# Altium integrated library Oscillators - Crystals.IntLib: 746 symbols (part 4 of 17)
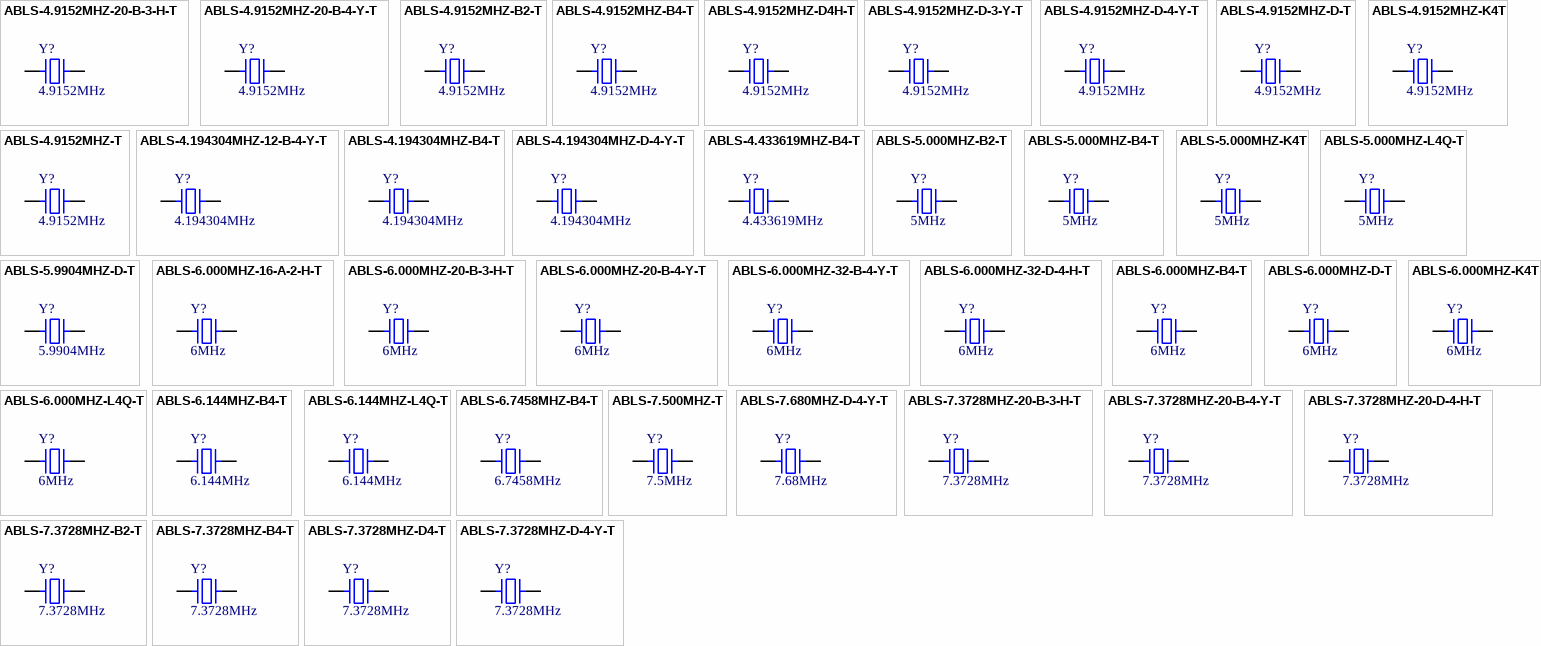
[diagram p21: symbols ABLS-4.9152MHZ-20-B-3-H-T to ABLS-7.3728MHZ-D-4-Y-T]

## ABLS-5.9904MHZ-D-T
designator Y?, comment 5.9904MHz
CRYSTAL 5.9904MHZ 18PF SMD; Part Number: ABLS-5.9904MHZ-D-T; Manufacturer: Abracon LLC; ESR (Equivalent Series Resistance): 120 Ohms; Frequency Stability: ±50ppm; Operating Mode: Fundamental; ComponentLink1Description: Datasheet; ComponentLink1URL: https://abracon.com/Resonators/abls.pdf; ComponentLink2Description: DigiKey Link; ComponentLink2URL: http://digikey.com/product-detail/en/abracon-llc/ABLS-5.9904MHZ-D-T/535-14361-1-ND/8582122; Frequency: 5.9904MHz; Frequency Tolerance: ±50ppm; Height - Seated (Max): 0.165" (4.20mm); LastUpdated: 9/2/2020 1:21:46 AM; Lifecycle Status: Active; Load Capacitance: 18pF; Minimum Order: 1; Mounting Type: Surface Mount; Operating Temperature: -40°C ~ 85°C; Package / Case: HC-49/US; Packaging: TapeAndReel; PartId: 22; Part Status: Active; Price: 0.24; Series: ABLS; Size / Dimension: 0.449" L x 0.185" W (11.40mm x 4.70mm); Supplier 1: DigiKey; Supplier Part Number 1: 535-14361-1-ND; Type: MHz Crystal; Value: 5.9904MHz
footprint ABRACON ABLS
pins: 1, 2

## ABLS-6.000MHZ-16-A-2-H-T
designator Y?, comment 6MHz
CRYSTAL 6.0000MHZ 16PF SMD; Part Number: ABLS-6.000MHZ-16-A-2-H-T; Manufacturer: Abracon LLC; ESR (Equivalent Series Resistance): 100 Ohms; Frequency Stability: ±35ppm; Frequency Tolerance: ±20ppm; Operating Mode: Fundamental; ComponentLink1Description: Datasheet; ComponentLink1URL: https://abracon.com/Resonators/abls.pdf; ComponentLink2Description: DigiKey Link; ComponentLink2URL: http://digikey.com/product-detail/en/abracon-llc/ABLS-6.000MHZ-16-A-2-H-T/535-14931-1-ND/9998008; Frequency: 6MHz; Height - Seated (Max): 0.165" (4.20mm); LastUpdated: 9/2/2020 1:21:46 AM; Lifecycle Status: Active; Load Capacitance: 16pF; Minimum Order: 1; Mounting Type: Surface Mount; Operating Temperature: -10°C ~ 60°C; Package / Case: HC-49/US; Packaging: TapeAndReel; PartId: 80; Part Status: Active; Price: 0.28; Series: ABLS; Size / Dimension: 0.449" L x 0.185" W (11.40mm x 4.70mm); Supplier 1: DigiKey; Supplier Part Number 1: 535-14931-1-ND; Type: MHz Crystal; Value: 6MHz
footprint ABRACON ABLS
pins: 1, 2

## ABLS-6.000MHZ-20-B-3-H-T
designator Y?, comment 6MHz
CRYSTAL 6.0000MHZ 20PF SMD; Part Number: ABLS-6.000MHZ-20-B-3-H-T; Manufacturer: Abracon LLC; ESR (Equivalent Series Resistance): 100 Ohms; Frequency Stability: ±35ppm; Frequency Tolerance: ±25ppm; Operating Mode: Fundamental; ComponentLink1Description: Datasheet; ComponentLink1URL: https://abracon.com/Resonators/abls.pdf; ComponentLink2Description: DigiKey Link; ComponentLink2URL: http://digikey.com/product-detail/en/abracon-llc/ABLS-6.000MHZ-20-B-3-H-T/535-14932-1-ND/9998009; Frequency: 6MHz; Height - Seated (Max): 0.165" (4.20mm); LastUpdated: 9/2/2020 1:21:46 AM; Lifecycle Status: Active; Load Capacitance: 20pF; Minimum Order: 1; Mounting Type: Surface Mount; Operating Temperature: -20°C ~ 70°C; Package / Case: HC-49/US; Packaging: TapeAndReel; PartId: 34; Part Status: Active; Price: 0.12; Series: ABLS; Size / Dimension: 0.449" L x 0.185" W (11.40mm x 4.70mm); Supplier 1: DigiKey; Supplier Part Number 1: 535-14932-1-ND; Type: MHz Crystal; Value: 6MHz
footprint ABRACON ABLS
pins: 1, 2

## ABLS-6.000MHZ-20-B-4-Y-T
designator Y?, comment 6MHz
CRYSTAL 6.0000MHZ 20PF SMD; Part Number: ABLS-6.000MHZ-20-B-4-Y-T; Manufacturer: Abracon LLC; ESR (Equivalent Series Resistance): 100 Ohms; Frequency Stability: ±30ppm; Operating Mode: Fundamental; ComponentLink1Description: Datasheet; ComponentLink1URL: https://abracon.com/Resonators/abls.pdf; ComponentLink2Description: DigiKey Link; ComponentLink2URL: http://digikey.com/product-detail/en/abracon-llc/ABLS-6.000MHZ-20-B-4-Y-T/535-14933-1-ND/9998010; Frequency: 6MHz; Frequency Tolerance: ±30ppm; Height - Seated (Max): 0.165" (4.20mm); LastUpdated: 9/2/2020 1:21:46 AM; Lifecycle Status: Active; Load Capacitance: 20pF; Minimum Order: 1; Mounting Type: Surface Mount; Operating Temperature: -20°C ~ 70°C; Package / Case: HC-49/US; Packaging: TapeAndReel; PartId: 45; Part Status: Active; Price: 0.18; Series: ABLS; Size / Dimension: 0.449" L x 0.185" W (11.40mm x 4.70mm); Supplier 1: DigiKey; Supplier Part Number 1: 535-14933-1-ND; Type: MHz Crystal; Value: 6MHz
footprint ABRACON ABLS
pins: 1, 2

## ABLS-6.000MHZ-32-B-4-Y-T
designator Y?, comment 6MHz
CRYSTAL 6.0000MHZ 32PF SMD; Part Number: ABLS-6.000MHZ-32-B-4-Y-T; Manufacturer: Abracon LLC; ESR (Equivalent Series Resistance): 100 Ohms; Frequency Stability: ±30ppm; Operating Mode: Fundamental; ComponentLink1Description: Datasheet; ComponentLink1URL: https://abracon.com/Resonators/abls.pdf; ComponentLink2Description: DigiKey Link; ComponentLink2URL: http://digikey.com/product-detail/en/abracon-llc/ABLS-6.000MHZ-32-B-4-Y-T/535-14934-1-ND/9998011; Frequency: 6MHz; Frequency Tolerance: ±30ppm; Height - Seated (Max): 0.165" (4.20mm); LastUpdated: 9/2/2020 1:21:46 AM; Lifecycle Status: Active; Load Capacitance: 32pF; Minimum Order: 1; Mounting Type: Surface Mount; Operating Temperature: -20°C ~ 70°C; Package / Case: HC-49/US; Packaging: TapeAndReel; PartId: 50; Part Status: Active; Price: 0.18; Series: ABLS; Size / Dimension: 0.449" L x 0.185" W (11.40mm x 4.70mm); Supplier 1: DigiKey; Supplier Part Number 1: 535-14934-1-ND; Type: MHz Crystal; Value: 6MHz
footprint ABRACON ABLS
pins: 1, 2

## ABLS-6.000MHZ-32-D-4-H-T
designator Y?, comment 6MHz
CRYSTAL 6.0000MHZ 32PF SMD; Part Number: ABLS-6.000MHZ-32-D-4-H-T; Manufacturer: Abracon LLC; ESR (Equivalent Series Resistance): 100 Ohms; Frequency Stability: ±35ppm; Frequency Tolerance: ±30ppm; Operating Mode: Fundamental; ComponentLink1Description: Datasheet; ComponentLink1URL: https://abracon.com/Resonators/abls.pdf; ComponentLink2Description: DigiKey Link; ComponentLink2URL: http://digikey.com/product-detail/en/abracon-llc/ABLS-6.000MHZ-32-D-4-H-T/535-14935-1-ND/9998012; Frequency: 6MHz; Height - Seated (Max): 0.165" (4.20mm); LastUpdated: 9/2/2020 1:21:45 AM; Lifecycle Status: Active; Load Capacitance: 32pF; Minimum Order: 1; Mounting Type: Surface Mount; Operating Temperature: -40°C ~ 85°C; Package / Case: HC-49/US; Packaging: TapeAndReel; PartId: 193; Part Status: Active; Price: 0.40; Series: ABLS; Size / Dimension: 0.449" L x 0.185" W (11.40mm x 4.70mm); Supplier 1: DigiKey; Supplier Part Number 1: 535-14935-1-ND; Type: MHz Crystal; Value: 6MHz
footprint ABRACON ABLS
pins: 1, 2

## ABLS-6.000MHZ-B4-T
designator Y?, comment 6MHz
CRYSTAL 6.0000MHZ 18PF SMD; Part Number: ABLS-6.000MHZ-B4-T; Manufacturer: Abracon LLC; ESR (Equivalent Series Resistance): 100 Ohms; Frequency Stability: ±50ppm; Frequency Tolerance: ±30ppm; Operating Mode: Fundamental; ComponentLink1Description: Datasheet; ComponentLink1URL: https://abracon.com/Resonators/abls.pdf; ComponentLink2Description: DigiKey Link; ComponentLink2URL: http://digikey.com/product-detail/en/abracon-llc/ABLS-6.000MHZ-B4-T/535-10208-1-ND/2184243; Frequency: 6MHz; Height - Seated (Max): 0.165" (4.20mm); LastUpdated: 9/2/2020 1:21:45 AM; Lifecycle Status: Active; Load Capacitance: 18pF; Minimum Order: 1; Mounting Type: Surface Mount; Operating Temperature: -20°C ~ 70°C; Package / Case: HC-49/US; Packaging: TapeAndReel; PartId: 101; Part Status: Active; Price: 0.18; Series: ABLS; Size / Dimension: 0.449" L x 0.185" W (11.40mm x 4.70mm); Supplier 1: DigiKey; Supplier Part Number 1: 535-10208-1-ND; Type: MHz Crystal; Value: 6MHz
footprint ABRACON ABLS
pins: 1, 2

## ABLS-6.000MHZ-D-T
designator Y?, comment 6MHz
CRYSTAL 6.0000MHZ 18PF SMD; Part Number: ABLS-6.000MHZ-D-T; Manufacturer: Abracon LLC; ESR (Equivalent Series Resistance): 100 Ohms; Frequency Stability: ±50ppm; Operating Mode: Fundamental; ComponentLink1Description: Datasheet; ComponentLink1URL: https://abracon.com/Resonators/abls.pdf; ComponentLink2Description: DigiKey Link; ComponentLink2URL: http://digikey.com/product-detail/en/abracon-llc/ABLS-6.000MHZ-D-T/535-13443-2-ND/5980039; Frequency: 6MHz; Frequency Tolerance: ±50ppm; Height - Seated (Max): 0.165" (4.20mm); LastUpdated: 9/2/2020 1:21:45 AM; Lifecycle Status: Active; Load Capacitance: 18pF; Minimum Order: 0; Mounting Type: Surface Mount; Operating Temperature: -40°C ~ 85°C; Package / Case: HC-49/US; Packaging: TapeAndReel; PartId: 163; Part Status: Active; Price: 0.18; Series: ABLS; Size / Dimension: 0.449" L x 0.185" W (11.40mm x 4.70mm); Supplier 1: DigiKey; Supplier Part Number 1: 535-13443-2-ND; Type: MHz Crystal; Value: 6MHz
footprint ABRACON ABLS
pins: 1, 2

## ABLS-6.000MHZ-K4T
designator Y?, comment 6MHz
CRYSTAL 6.0000MHZ 18PF SMD; Part Number: ABLS-6.000MHZ-K4T; Manufacturer: Abracon LLC; ESR (Equivalent Series Resistance): 100 Ohms; Frequency Stability: ±50ppm; Frequency Tolerance: ±30ppm; Operating Mode: Fundamental; ComponentLink1Description: Datasheet; ComponentLink1URL: https://abracon.com/Resonators/abls.pdf; ComponentLink2Description: DigiKey Link; ComponentLink2URL: http://digikey.com/product-detail/en/abracon-llc/ABLS-6.000MHZ-K4T/535-9934-1-ND/2001557; Frequency: 6MHz; Height - Seated (Max): 0.165" (4.20mm); LastUpdated: 9/2/2020 1:21:44 AM; Lifecycle Status: Active; Load Capacitance: 18pF; Minimum Order: 1; Mounting Type: Surface Mount; Operating Temperature: -40°C ~ 125°C; Package / Case: HC-49/US; Packaging: TapeAndReel; PartId: 211; Part Status: Active; Price: 0.41; Series: ABLS; Size / Dimension: 0.449" L x 0.185" W (11.40mm x 4.70mm); Supplier 1: DigiKey; Supplier Part Number 1: 535-9934-1-ND; Type: MHz Crystal; Value: 6MHz
footprint ABRACON ABLS
pins: 1, 2

## ABLS-6.000MHZ-L4Q-T
designator Y?, comment 6MHz
CRYSTAL 6.0000MHZ 18PF SMD; Part Number: ABLS-6.000MHZ-L4Q-T; Manufacturer: Abracon LLC; ESR (Equivalent Series Resistance): 100 Ohms; Frequency Stability: ±100ppm; Frequency Tolerance: ±30ppm; Operating Mode: Fundamental; ComponentLink1Description: Datasheet; ComponentLink1URL: https://abracon.com/Resonators/abls.pdf; ComponentLink2Description: DigiKey Link; ComponentLink2URL: http://digikey.com/product-detail/en/abracon-llc/ABLS-6.000MHZ-L4Q-T/535-9898-1-ND/2001521; Frequency: 6MHz; Height - Seated (Max): 0.165" (4.20mm); LastUpdated: 9/2/2020 1:21:44 AM; Lifecycle Status: Active; Load Capacitance: 18pF; Minimum Order: 1; Mounting Type: Surface Mount; Operating Temperature: -55°C ~ 125°C; Package / Case: HC-49/US; Packaging: TapeAndReel; PartId: 203; Part Status: Active; Price: 0.42; Series: ABLS; Size / Dimension: 0.449" L x 0.185" W (11.40mm x 4.70mm); Supplier 1: DigiKey; Supplier Part Number 1: 535-9898-1-ND; Type: MHz Crystal; Value: 6MHz
footprint ABRACON ABLS
pins: 1, 2

## ABLS-6.144MHZ-B4-T
designator Y?, comment 6.144MHz
CRYSTAL 6.1440MHZ 18PF SMD; Part Number: ABLS-6.144MHZ-B4-T; Manufacturer: Abracon LLC; ESR (Equivalent Series Resistance): 100 Ohms; Frequency Stability: ±50ppm; Frequency Tolerance: ±30ppm; Operating Mode: Fundamental; ComponentLink1Description: Datasheet; ComponentLink1URL: https://abracon.com/Resonators/abls.pdf; ComponentLink2Description: DigiKey Link; ComponentLink2URL: http://digikey.com/product-detail/en/abracon-llc/ABLS-6.144MHZ-B4-T/535-10209-1-ND/2184244; Frequency: 6.144MHz; Height - Seated (Max): 0.165" (4.20mm); LastUpdated: 9/2/2020 1:21:45 AM; Lifecycle Status: Active; Load Capacitance: 18pF; Minimum Order: 1; Mounting Type: Surface Mount; Operating Temperature: -20°C ~ 70°C; Package / Case: HC-49/US; Packaging: TapeAndReel; PartId: 157; Part Status: Active; Price: 0.18; Series: ABLS; Size / Dimension: 0.449" L x 0.185" W (11.40mm x 4.70mm); Supplier 1: DigiKey; Supplier Part Number 1: 535-10209-1-ND; Type: MHz Crystal; Value: 6.144MHz
footprint ABRACON ABLS
pins: 1, 2

## ABLS-6.144MHZ-L4Q-T
designator Y?, comment 6.144MHz
CRYSTAL 6.1440MHZ 18PF SMD; Part Number: ABLS-6.144MHZ-L4Q-T; Manufacturer: Abracon LLC; ESR (Equivalent Series Resistance): 100 Ohms; Frequency Stability: ±100ppm; Frequency Tolerance: ±30ppm; Operating Mode: Fundamental; ComponentLink1Description: Datasheet; ComponentLink1URL: https://abracon.com/Resonators/abls.pdf; ComponentLink2Description: DigiKey Link; ComponentLink2URL: http://digikey.com/product-detail/en/abracon-llc/ABLS-6.144MHZ-L4Q-T/535-9899-1-ND/2001522; Frequency: 6.144MHz; Height - Seated (Max): 0.165" (4.20mm); LastUpdated: 9/2/2020 1:21:44 AM; Lifecycle Status: Active; Load Capacitance: 18pF; Minimum Order: 1; Mounting Type: Surface Mount; Operating Temperature: -55°C ~ 125°C; Package / Case: HC-49/US; Packaging: TapeAndReel; PartId: 219; Part Status: Active; Price: 0.42; Series: ABLS; Size / Dimension: 0.449" L x 0.185" W (11.40mm x 4.70mm); Supplier 1: DigiKey; Supplier Part Number 1: 535-9899-1-ND; Type: MHz Crystal; Value: 6.144MHz
footprint ABRACON ABLS
pins: 1, 2

## ABLS-6.7458MHZ-B4-T
designator Y?, comment 6.7458MHz
CRYSTAL 6.7458MHZ 18PF SMD; Part Number: ABLS-6.7458MHZ-B4-T; Manufacturer: Abracon LLC; ESR (Equivalent Series Resistance): 100 Ohms; Frequency Stability: ±50ppm; Frequency Tolerance: ±30ppm; Operating Mode: Fundamental; ComponentLink1Description: Datasheet; ComponentLink1URL: https://abracon.com/Resonators/abls.pdf; ComponentLink2Description: DigiKey Link; ComponentLink2URL: http://digikey.com/product-detail/en/abracon-llc/ABLS-6.7458MHZ-B4-T/535-10210-1-ND/2184245; Frequency: 6.7458MHz; Height - Seated (Max): 0.165" (4.20mm); LastUpdated: 9/2/2020 1:21:45 AM; Lifecycle Status: Active; Load Capacitance: 18pF; Minimum Order: 1; Mounting Type: Surface Mount; Operating Temperature: -20°C ~ 70°C; Package / Case: HC-49/US; Packaging: TapeAndReel; PartId: 112; Part Status: Active; Price: 0.18; Series: ABLS; Size / Dimension: 0.449" L x 0.185" W (11.40mm x 4.70mm); Supplier 1: DigiKey; Supplier Part Number 1: 535-10210-1-ND; Type: MHz Crystal; Value: 6.7458MHz
footprint ABRACON ABLS
pins: 1, 2

## ABLS-7.500MHZ-T
designator Y?, comment 7.5MHz
CRYSTAL 7.500MHZ 18PF SMD; Part Number: ABLS-7.500MHZ-T; Manufacturer: Abracon LLC; ESR (Equivalent Series Resistance): 100 Ohms; Frequency Stability: ±50ppm; Operating Mode: Fundamental; ComponentLink1Description: Datasheet; ComponentLink1URL: https://abracon.com/Resonators/abls.pdf; ComponentLink2Description: DigiKey Link; ComponentLink2URL: http://digikey.com/product-detail/en/abracon-llc/ABLS-7.500MHZ-T/535-14363-1-ND/8582124; Frequency: 7.5MHz; Frequency Tolerance: ±50ppm; Height - Seated (Max): 0.165" (4.20mm); LastUpdated: 9/2/2020 1:21:46 AM; Lifecycle Status: Active; Load Capacitance: 18pF; Minimum Order: 1; Mounting Type: Surface Mount; Package / Case: HC-49/US; Packaging: TapeAndReel; PartId: 16; Part Status: Active; Price: 0.24; Series: ABLS; Size / Dimension: 0.449" L x 0.185" W (11.40mm x 4.70mm); Supplier 1: DigiKey; Supplier Part Number 1: 535-14363-1-ND; Type: MHz Crystal; Value: 7.5MHz
footprint ABRACON ABLS
pins: 1, 2

## ABLS-7.680MHZ-D-4-Y-T
designator Y?, comment 7.68MHz
CRYSTAL 7.680MHZ 18PF SMD; Part Number: ABLS-7.680MHZ-D-4-Y-T; Manufacturer: Abracon LLC; ESR (Equivalent Series Resistance): 100 Ohms; Frequency Stability: ±30ppm; Operating Mode: Fundamental; ComponentLink1Description: Datasheet; ComponentLink1URL: https://abracon.com/Resonators/abls.pdf; ComponentLink2Description: DigiKey Link; ComponentLink2URL: http://digikey.com/product-detail/en/abracon-llc/ABLS-7.680MHZ-D-4-Y-T/535-14940-1-ND/9998017; Frequency: 7.68MHz; Frequency Tolerance: ±30ppm; Height - Seated (Max): 0.165" (4.20mm); LastUpdated: 9/2/2020 1:21:45 AM; Lifecycle Status: Active; Load Capacitance: 18pF; Minimum Order: 1; Mounting Type: Surface Mount; Operating Temperature: -40°C ~ 85°C; Package / Case: HC-49/US; Packaging: TapeAndReel; PartId: 189; Part Status: Active; Price: 0.31; Series: ABLS; Size / Dimension: 0.449" L x 0.185" W (11.40mm x 4.70mm); Supplier 1: DigiKey; Supplier Part Number 1: 535-14940-1-ND; Type: MHz Crystal; Value: 7.68MHz
footprint ABRACON ABLS
pins: 1, 2

## ABLS-7.3728MHZ-20-B-3-H-T
designator Y?, comment 7.3728MHz
CRYSTAL 7.3728MHZ 20PF SMD; Part Number: ABLS-7.3728MHZ-20-B-3-H-T; Manufacturer: Abracon LLC; ESR (Equivalent Series Resistance): 100 Ohms; Frequency Stability: ±35ppm; Frequency Tolerance: ±25ppm; Operating Mode: Fundamental; ComponentLink1Description: Datasheet; ComponentLink1URL: https://abracon.com/Resonators/abls.pdf; ComponentLink2Description: DigiKey Link; ComponentLink2URL: http://digikey.com/product-detail/en/abracon-llc/ABLS-7.3728MHZ-20-B-3-H-T/535-14936-1-ND/9998013; Frequency: 7.3728MHz; Height - Seated (Max): 0.165" (4.20mm); LastUpdated: 9/2/2020 1:21:46 AM; Lifecycle Status: Active; Load Capacitance: 20pF; Minimum Order: 1; Mounting Type: Surface Mount; Operating Temperature: -20°C ~ 70°C; Package / Case: HC-49/US; Packaging: TapeAndReel; PartId: 30; Part Status: Active; Price: 0.11; Series: ABLS; Size / Dimension: 0.449" L x 0.185" W (11.40mm x 4.70mm); Supplier 1: DigiKey; Supplier Part Number 1: 535-14936-1-ND; Type: MHz Crystal; Value: 7.3728MHz
footprint ABRACON ABLS
pins: 1, 2

## ABLS-7.3728MHZ-20-B-4-Y-T
designator Y?, comment 7.3728MHz
CRYSTAL 7.3728MHZ 20PF SMD; Part Number: ABLS-7.3728MHZ-20-B-4-Y-T; Manufacturer: Abracon LLC; ESR (Equivalent Series Resistance): 100 Ohms; Frequency Stability: ±30ppm; Operating Mode: Fundamental; ComponentLink1Description: Datasheet; ComponentLink1URL: https://abracon.com/Resonators/abls.pdf; ComponentLink2Description: DigiKey Link; ComponentLink2URL: http://digikey.com/product-detail/en/abracon-llc/ABLS-7.3728MHZ-20-B-4-Y-T/535-14937-1-ND/9998014; Frequency: 7.3728MHz; Frequency Tolerance: ±30ppm; Height - Seated (Max): 0.165" (4.20mm); LastUpdated: 9/2/2020 1:21:46 AM; Lifecycle Status: Active; Load Capacitance: 20pF; Minimum Order: 1; Mounting Type: Surface Mount; Operating Temperature: -20°C ~ 70°C; Package / Case: HC-49/US; Packaging: TapeAndReel; PartId: 54; Part Status: Active; Price: 0.21; Series: ABLS; Size / Dimension: 0.449" L x 0.185" W (11.40mm x 4.70mm); Supplier 1: DigiKey; Supplier Part Number 1: 535-14937-1-ND; Type: MHz Crystal; Value: 7.3728MHz
footprint ABRACON ABLS
pins: 1, 2

## ABLS-7.3728MHZ-20-D-4-H-T
designator Y?, comment 7.3728MHz
CRYSTAL 7.3728MHZ 20PF SMD; Part Number: ABLS-7.3728MHZ-20-D-4-H-T; Manufacturer: Abracon LLC; ESR (Equivalent Series Resistance): 100 Ohms; Frequency Stability: ±35ppm; Frequency Tolerance: ±30ppm; Operating Mode: Fundamental; ComponentLink1Description: Datasheet; ComponentLink1URL: https://abracon.com/Resonators/abls.pdf; ComponentLink2Description: DigiKey Link; ComponentLink2URL: http://digikey.com/product-detail/en/abracon-llc/ABLS-7.3728MHZ-20-D-4-H-T/535-14938-1-ND/9998015; Frequency: 7.3728MHz; Height - Seated (Max): 0.165" (4.20mm); LastUpdated: 9/2/2020 1:21:45 AM; Lifecycle Status: Active; Load Capacitance: 20pF; Minimum Order: 1; Mounting Type: Surface Mount; Operating Temperature: -40°C ~ 85°C; Package / Case: HC-49/US; Packaging: TapeAndReel; PartId: 172; Part Status: Active; Price: 0.39; Series: ABLS; Size / Dimension: 0.449" L x 0.185" W (11.40mm x 4.70mm); Supplier 1: DigiKey; Supplier Part Number 1: 535-14938-1-ND; Type: MHz Crystal; Value: 7.3728MHz
footprint ABRACON ABLS
pins: 1, 2

## ABLS-7.3728MHZ-B2-T
designator Y?, comment 7.3728MHz
CRYSTAL 7.3728MHZ 18PF SMD; Part Number: ABLS-7.3728MHZ-B2-T; Manufacturer: Abracon LLC; ESR (Equivalent Series Resistance): 100 Ohms; Frequency Stability: ±50ppm; Frequency Tolerance: ±20ppm; Operating Mode: Fundamental; ComponentLink1Description: Datasheet; ComponentLink1URL: https://abracon.com/Resonators/abls.pdf; ComponentLink2Description: DigiKey Link; ComponentLink2URL: http://digikey.com/product-detail/en/abracon-llc/ABLS-7.3728MHZ-B2-T/535-9088-1-ND/675605; Frequency: 7.3728MHz; Height - Seated (Max): 0.165" (4.20mm); LastUpdated: 9/2/2020 1:21:45 AM; Lifecycle Status: Active; Load Capacitance: 18pF; Minimum Order: 1; Mounting Type: Surface Mount; Operating Temperature: -20°C ~ 70°C; Package / Case: HC-49/US; Packaging: TapeAndReel; PartId: 126; Part Status: Active; Price: 0.24; Series: ABLS; Size / Dimension: 0.449" L x 0.185" W (11.40mm x 4.70mm); Supplier 1: DigiKey; Supplier Part Number 1: 535-9088-1-ND; Type: MHz Crystal; Value: 7.3728MHz
footprint ABRACON ABLS
pins: 1, 2

## ABLS-7.3728MHZ-B4-T
designator Y?, comment 7.3728MHz
CRYSTAL 7.3728MHZ 18PF SMD; Part Number: ABLS-7.3728MHZ-B4-T; Manufacturer: Abracon LLC; ESR (Equivalent Series Resistance): 100 Ohms; Frequency Stability: ±50ppm; Frequency Tolerance: ±30ppm; Operating Mode: Fundamental; ComponentLink1Description: Datasheet; ComponentLink1URL: https://abracon.com/Resonators/abls.pdf; ComponentLink2Description: DigiKey Link; ComponentLink2URL: http://digikey.com/product-detail/en/abracon-llc/ABLS-7.3728MHZ-B4-T/535-10211-1-ND/2184246; Frequency: 7.3728MHz; Height - Seated (Max): 0.165" (4.20mm); LastUpdated: 9/2/2020 1:21:45 AM; Lifecycle Status: Active; Load Capacitance: 18pF; Minimum Order: 1; Mounting Type: Surface Mount; Operating Temperature: -20°C ~ 70°C; Package / Case: HC-49/US; Packaging: TapeAndReel; PartId: 108; Part Status: Active; Price: 0.18; Series: ABLS; Size / Dimension: 0.449" L x 0.185" W (11.40mm x 4.70mm); Supplier 1: DigiKey; Supplier Part Number 1: 535-10211-1-ND; Type: MHz Crystal; Value: 7.3728MHz
footprint ABRACON ABLS
pins: 1, 2

## ABLS-7.3728MHZ-D4-T
designator Y?, comment 7.3728MHz
CRYSTAL 7.3728MHZ 18PF SMD; Part Number: ABLS-7.3728MHZ-D4-T; Manufacturer: Abracon LLC; ESR (Equivalent Series Resistance): 100 Ohms; Frequency Stability: ±50ppm; Frequency Tolerance: ±30ppm; Operating Mode: Fundamental; ComponentLink1Description: Datasheet; ComponentLink1URL: https://abracon.com/Resonators/abls.pdf; ComponentLink2Description: DigiKey Link; ComponentLink2URL: http://digikey.com/product-detail/en/abracon-llc/ABLS-7.3728MHZ-D4-T/535-14362-1-ND/8582123; Frequency: 7.3728MHz; Height - Seated (Max): 0.165" (4.20mm); LastUpdated: 9/2/2020 1:21:46 AM; Lifecycle Status: Active; Load Capacitance: 18pF; Minimum Order: 1; Mounting Type: Surface Mount; Operating Temperature: -40°C ~ 85°C; Package / Case: HC-49/US; Packaging: TapeAndReel; PartId: 12; Part Status: Active; Price: 0.24; Series: ABLS; Size / Dimension: 0.449" L x 0.185" W (11.40mm x 4.70mm); Supplier 1: DigiKey; Supplier Part Number 1: 535-14362-1-ND; Type: MHz Crystal; Value: 7.3728MHz
footprint ABRACON ABLS
pins: 1, 2

## ABLS-7.3728MHZ-D-4-Y-T
designator Y?, comment 7.3728MHz
CRYSTAL 7.3728MHZ 18PF SMD; Part Number: ABLS-7.3728MHZ-D-4-Y-T; Manufacturer: Abracon LLC; ESR (Equivalent Series Resistance): 100 Ohms; Frequency Stability: ±30ppm; Operating Mode: Fundamental; ComponentLink1Description: Datasheet; ComponentLink1URL: https://abracon.com/Resonators/abls.pdf; ComponentLink2Description: DigiKey Link; ComponentLink2URL: http://digikey.com/product-detail/en/abracon-llc/ABLS-7.3728MHZ-D-4-Y-T/535-14939-1-ND/9998016; Frequency: 7.3728MHz; Frequency Tolerance: ±30ppm; Height - Seated (Max): 0.165" (4.20mm); LastUpdated: 9/2/2020 1:21:45 AM; Lifecycle Status: Active; Load Capacitance: 18pF; Minimum Order: 1; Mounting Type: Surface Mount; Operating Temperature: -40°C ~ 85°C; Package / Case: HC-49/US; Packaging: TapeAndReel; PartId: 144; Part Status: Active; Price: 0.31; Series: ABLS; Size / Dimension: 0.449" L x 0.185" W (11.40mm x 4.70mm); Supplier 1: DigiKey; Supplier Part Number 1: 535-14939-1-ND; Type: MHz Crystal; Value: 7.3728MHz
footprint ABRACON ABLS
pins: 1, 2

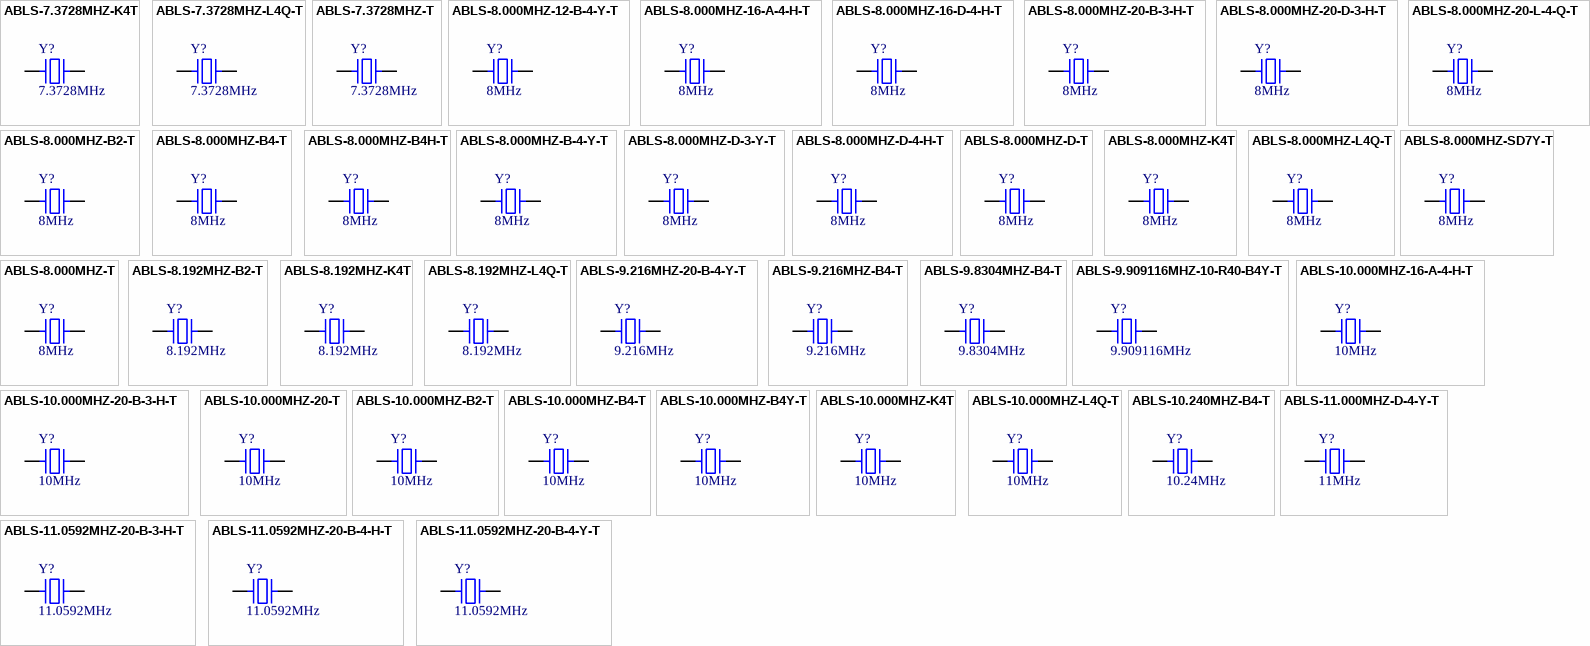
[diagram p4: symbols ABLS-7.3728MHZ-K4T to ABLS-11.0592MHZ-20-B-4-Y-T]

## ABLS-7.3728MHZ-K4T
designator Y?, comment 7.3728MHz
CRYSTAL 7.3728MHZ 18PF SMD; Part Number: ABLS-7.3728MHZ-K4T; Manufacturer: Abracon LLC; ESR (Equivalent Series Resistance): 100 Ohms; Frequency Stability: ±50ppm; Frequency Tolerance: ±30ppm; Operating Mode: Fundamental; ComponentLink1Description: Datasheet; ComponentLink1URL: https://abracon.com/Resonators/abls.pdf; ComponentLink2Description: DigiKey Link; ComponentLink2URL: http://digikey.com/product-detail/en/abracon-llc/ABLS-7.3728MHZ-K4T/535-9936-2-ND/2001303; Frequency: 7.3728MHz; Height - Seated (Max): 0.165" (4.20mm); LastUpdated: 9/2/2020 1:21:44 AM; Lifecycle Status: Active; Load Capacitance: 18pF; Minimum Order: 0; Mounting Type: Surface Mount; Operating Temperature: -40°C ~ 125°C; Package / Case: HC-49/US; Packaging: TapeAndReel; PartId: 215; Part Status: Active; Price: 0.41; Series: ABLS; Size / Dimension: 0.449" L x 0.185" W (11.40mm x 4.70mm); Supplier 1: DigiKey; Supplier Part Number 1: 535-9936-2-ND; Type: MHz Crystal; Value: 7.3728MHz
footprint ABRACON ABLS
pins: 1, 2

## ABLS-7.3728MHZ-L4Q-T
designator Y?, comment 7.3728MHz
CRYSTAL 7.3728MHZ 18PF SMD; Part Number: ABLS-7.3728MHZ-L4Q-T; Manufacturer: Abracon LLC; ESR (Equivalent Series Resistance): 100 Ohms; Frequency Stability: ±100ppm; Frequency Tolerance: ±30ppm; Operating Mode: Fundamental; ComponentLink1Description: Datasheet; ComponentLink1URL: https://abracon.com/Resonators/abls.pdf; ComponentLink2Description: DigiKey Link; ComponentLink2URL: http://digikey.com/product-detail/en/abracon-llc/ABLS-7.3728MHZ-L4Q-T/535-9900-1-ND/2001523; Frequency: 7.3728MHz; Height - Seated (Max): 0.165" (4.20mm); LastUpdated: 9/2/2020 1:21:44 AM; Lifecycle Status: Active; Load Capacitance: 18pF; Minimum Order: 1; Mounting Type: Surface Mount; Operating Temperature: -55°C ~ 125°C; Package / Case: HC-49/US; Packaging: TapeAndReel; PartId: 252; Part Status: Active; Price: 0.42; Series: ABLS; Size / Dimension: 0.449" L x 0.185" W (11.40mm x 4.70mm); Supplier 1: DigiKey; Supplier Part Number 1: 535-9900-1-ND; Type: MHz Crystal; Value: 7.3728MHz
footprint ABRACON ABLS
pins: 1, 2

## ABLS-7.3728MHZ-T
designator Y?, comment 7.3728MHz
CRYSTAL 7.3728MHZ 18PF SMD; Part Number: ABLS-7.3728MHZ-T; Manufacturer: Abracon LLC; ESR (Equivalent Series Resistance): 100 Ohms; Frequency Stability: ±50ppm; Operating Mode: Fundamental; ComponentLink1Description: Datasheet; ComponentLink1URL: https://abracon.com/Resonators/abls.pdf; ComponentLink2Description: DigiKey Link; ComponentLink2URL: http://digikey.com/product-detail/en/abracon-llc/ABLS-7.3728MHZ-T/535-13444-1-ND/5980120; Frequency: 7.3728MHz; Frequency Tolerance: ±50ppm; Height - Seated (Max): 0.165" (4.20mm); LastUpdated: 9/2/2020 1:21:45 AM; Lifecycle Status: Active; Load Capacitance: 18pF; Minimum Order: 0; Mounting Type: Surface Mount; Package / Case: HC-49/US; Packaging: TapeAndReel; PartId: 103; Part Status: Active; Price: 0.18; Series: ABLS; Size / Dimension: 0.449" L x 0.185" W (11.40mm x 4.70mm); Supplier 1: DigiKey; Supplier Part Number 1: 535-13444-1-ND; Type: MHz Crystal; Value: 7.3728MHz
footprint ABRACON ABLS
pins: 1, 2

## ABLS-8.000MHZ-12-B-4-Y-T
designator Y?, comment 8MHz
CRYSTAL 8.0000MHZ 12PF SMD; Part Number: ABLS-8.000MHZ-12-B-4-Y-T; Manufacturer: Abracon LLC; ESR (Equivalent Series Resistance): 80 Ohms; Frequency Stability: ±30ppm; Operating Mode: Fundamental; ComponentLink1Description: Datasheet; ComponentLink1URL: https://abracon.com/Resonators/abls.pdf; ComponentLink2Description: DigiKey Link; ComponentLink2URL: http://digikey.com/product-detail/en/abracon-llc/ABLS-8.000MHZ-12-B-4-Y-T/535-14941-1-ND/9998018; Frequency: 8MHz; Frequency Tolerance: ±30ppm; Height - Seated (Max): 0.165" (4.20mm); LastUpdated: 9/2/2020 1:21:45 AM; Lifecycle Status: Active; Load Capacitance: 12pF; Minimum Order: 1; Mounting Type: Surface Mount; Operating Temperature: -20°C ~ 70°C; Package / Case: HC-49/US; Packaging: TapeAndReel; PartId: 151; Part Status: Active; Price: 0.17; Series: ABLS; Size / Dimension: 0.449" L x 0.185" W (11.40mm x 4.70mm); Supplier 1: DigiKey; Supplier Part Number 1: 535-14941-1-ND; Type: MHz Crystal; Value: 8MHz
footprint ABRACON ABLS
pins: 1, 2

## ABLS-8.000MHZ-16-A-4-H-T
designator Y?, comment 8MHz
CRYSTAL 8.0000MHZ 16PF SMD; Part Number: ABLS-8.000MHZ-16-A-4-H-T; Manufacturer: Abracon LLC; ESR (Equivalent Series Resistance): 80 Ohms; Frequency Stability: ±35ppm; Frequency Tolerance: ±30ppm; Operating Mode: Fundamental; ComponentLink1Description: Datasheet; ComponentLink1URL: https://abracon.com/Resonators/abls.pdf; ComponentLink2Description: DigiKey Link; ComponentLink2URL: http://digikey.com/product-detail/en/abracon-llc/ABLS-8.000MHZ-16-A-4-H-T/535-14942-1-ND/9998019; Frequency: 8MHz; Height - Seated (Max): 0.165" (4.20mm); LastUpdated: 9/2/2020 1:21:46 AM; Lifecycle Status: Active; Load Capacitance: 16pF; Minimum Order: 1; Mounting Type: Surface Mount; Operating Temperature: -10°C ~ 60°C; Package / Case: HC-49/US; Packaging: TapeAndReel; PartId: 58; Part Status: Active; Price: 0.11; Series: ABLS; Size / Dimension: 0.449" L x 0.185" W (11.40mm x 4.70mm); Supplier 1: DigiKey; Supplier Part Number 1: 535-14942-1-ND; Type: MHz Crystal; Value: 8MHz
footprint ABRACON ABLS
pins: 1, 2

## ABLS-8.000MHZ-16-D-4-H-T
designator Y?, comment 8MHz
CRYSTAL 8.0000MHZ 16PF SMD; Part Number: ABLS-8.000MHZ-16-D-4-H-T; Manufacturer: Abracon LLC; ESR (Equivalent Series Resistance): 80 Ohms; Frequency Stability: ±35ppm; Frequency Tolerance: ±30ppm; Operating Mode: Fundamental; ComponentLink1Description: Datasheet; ComponentLink1URL: https://abracon.com/Resonators/abls.pdf; ComponentLink2Description: DigiKey Link; ComponentLink2URL: http://digikey.com/product-detail/en/abracon-llc/ABLS-8.000MHZ-16-D-4-H-T/535-14943-1-ND/9998020; Frequency: 8MHz; Height - Seated (Max): 0.165" (4.20mm); LastUpdated: 9/2/2020 1:21:45 AM; Lifecycle Status: Active; Load Capacitance: 16pF; Minimum Order: 1; Mounting Type: Surface Mount; Operating Temperature: -40°C ~ 85°C; Package / Case: HC-49/US; Packaging: TapeAndReel; PartId: 188; Part Status: Active; Price: 0.28; Series: ABLS; Size / Dimension: 0.449" L x 0.185" W (11.40mm x 4.70mm); Supplier 1: DigiKey; Supplier Part Number 1: 535-14943-1-ND; Type: MHz Crystal; Value: 8MHz
footprint ABRACON ABLS
pins: 1, 2

## ABLS-8.000MHZ-20-B-3-H-T
designator Y?, comment 8MHz
CRYSTAL 8.0000MHZ 20PF SMD; Part Number: ABLS-8.000MHZ-20-B-3-H-T; Manufacturer: Abracon LLC; ESR (Equivalent Series Resistance): 80 Ohms; Frequency Stability: ±35ppm; Frequency Tolerance: ±25ppm; Operating Mode: Fundamental; ComponentLink1Description: Datasheet; ComponentLink1URL: https://abracon.com/Resonators/abls.pdf; ComponentLink2Description: DigiKey Link; ComponentLink2URL: http://digikey.com/product-detail/en/abracon-llc/ABLS-8.000MHZ-20-B-3-H-T/535-14944-1-ND/9998021; Frequency: 8MHz; Height - Seated (Max): 0.165" (4.20mm); LastUpdated: 9/2/2020 1:21:46 AM; Lifecycle Status: Active; Load Capacitance: 20pF; Minimum Order: 1; Mounting Type: Surface Mount; Operating Temperature: -20°C ~ 70°C; Package / Case: HC-49/US; Packaging: TapeAndReel; PartId: 57; Part Status: Active; Price: 0.11; Series: ABLS; Size / Dimension: 0.449" L x 0.185" W (11.40mm x 4.70mm); Supplier 1: DigiKey; Supplier Part Number 1: 535-14944-1-ND; Type: MHz Crystal; Value: 8MHz
footprint ABRACON ABLS
pins: 1, 2

## ABLS-8.000MHZ-20-D-3-H-T
designator Y?, comment 8MHz
CRYSTAL 8.0000MHZ 20PF SMD; Part Number: ABLS-8.000MHZ-20-D-3-H-T; Manufacturer: Abracon LLC; ESR (Equivalent Series Resistance): 80 Ohms; Frequency Stability: ±35ppm; Frequency Tolerance: ±25ppm; Operating Mode: Fundamental; ComponentLink1Description: Datasheet; ComponentLink1URL: https://abracon.com/Resonators/abls.pdf; ComponentLink2Description: DigiKey Link; ComponentLink2URL: http://digikey.com/product-detail/en/abracon-llc/ABLS-8.000MHZ-20-D-3-H-T/535-14945-1-ND/9998022; Frequency: 8MHz; Height - Seated (Max): 0.165" (4.20mm); LastUpdated: 9/2/2020 1:21:45 AM; Lifecycle Status: Active; Load Capacitance: 20pF; Minimum Order: 1; Mounting Type: Surface Mount; Operating Temperature: -40°C ~ 85°C; Package / Case: HC-49/US; Packaging: TapeAndReel; PartId: 170; Part Status: Active; Price: 0.18; Series: ABLS; Size / Dimension: 0.449" L x 0.185" W (11.40mm x 4.70mm); Supplier 1: DigiKey; Supplier Part Number 1: 535-14945-1-ND; Type: MHz Crystal; Value: 8MHz
footprint ABRACON ABLS
pins: 1, 2

## ABLS-8.000MHZ-20-L-4-Q-T
designator Y?, comment 8MHz
CRYSTAL 8.0000MHZ 20PF SMD; Part Number: ABLS-8.000MHZ-20-L-4-Q-T; Manufacturer: Abracon LLC; ESR (Equivalent Series Resistance): 80 Ohms; Frequency Stability: ±100ppm; Frequency Tolerance: ±30ppm; Operating Mode: Fundamental; ComponentLink1Description: Datasheet; ComponentLink1URL: https://abracon.com/Resonators/abls.pdf; ComponentLink2Description: DigiKey Link; ComponentLink2URL: http://digikey.com/product-detail/en/abracon-llc/ABLS-8.000MHZ-20-L-4-Q-T/535-15012-1-ND/9998089; Frequency: 8MHz; Height - Seated (Max): 0.165" (4.20mm); LastUpdated: 9/2/2020 1:21:44 AM; Lifecycle Status: Active; Load Capacitance: 20pF; Minimum Order: 1; Mounting Type: Surface Mount; Operating Temperature: -55°C ~ 125°C; Package / Case: HC-49/US; Packaging: TapeAndReel; PartId: 249; Part Status: Active; Price: 0.41; Series: ABLS; Size / Dimension: 0.449" L x 0.185" W (11.40mm x 4.70mm); Supplier 1: DigiKey; Supplier Part Number 1: 535-15012-1-ND; Type: MHz Crystal; Value: 8MHz
footprint ABRACON ABLS
pins: 1, 2

## ABLS-8.000MHZ-B2-T
designator Y?, comment 8MHz
CRYSTAL 8.0000MHZ 18PF SMD; Part Number: ABLS-8.000MHZ-B2-T; Manufacturer: Abracon LLC; ESR (Equivalent Series Resistance): 80 Ohms; Frequency Stability: ±50ppm; Frequency Tolerance: ±20ppm; Operating Mode: Fundamental; ComponentLink1Description: Datasheet; ComponentLink1URL: https://abracon.com/Resonators/abls.pdf; ComponentLink2Description: DigiKey Link; ComponentLink2URL: http://digikey.com/product-detail/en/abracon-llc/ABLS-8.000MHZ-B2-T/535-9089-1-ND/675606; Frequency: 8MHz; Height - Seated (Max): 0.165" (4.20mm); LastUpdated: 9/2/2020 1:21:45 AM; Lifecycle Status: Active; Load Capacitance: 18pF; Minimum Order: 1; Mounting Type: Surface Mount; Operating Temperature: -20°C ~ 70°C; Package / Case: HC-49/US; Packaging: TapeAndReel; PartId: 133; Part Status: Active; Price: 0.24; Series: ABLS; Size / Dimension: 0.449" L x 0.185" W (11.40mm x 4.70mm); Supplier 1: DigiKey; Supplier Part Number 1: 535-9089-1-ND; Type: MHz Crystal; Value: 8MHz
footprint ABRACON ABLS
pins: 1, 2

## ABLS-8.000MHZ-B4-T
designator Y?, comment 8MHz
CRYSTAL 8.0000MHZ 18PF SMD; Part Number: ABLS-8.000MHZ-B4-T; Manufacturer: Abracon LLC; ESR (Equivalent Series Resistance): 80 Ohms; Frequency Stability: ±50ppm; Frequency Tolerance: ±30ppm; Operating Mode: Fundamental; ComponentLink1Description: Datasheet; ComponentLink1URL: https://abracon.com/Resonators/abls.pdf; ComponentLink2Description: DigiKey Link; ComponentLink2URL: http://digikey.com/product-detail/en/abracon-llc/ABLS-8.000MHZ-B4-T/535-10212-1-ND/2184247; Frequency: 8MHz; Height - Seated (Max): 0.165" (4.20mm); LastUpdated: 9/2/2020 1:21:45 AM; Lifecycle Status: Active; Load Capacitance: 18pF; Minimum Order: 1; Mounting Type: Surface Mount; Operating Temperature: -20°C ~ 70°C; Package / Case: HC-49/US; Packaging: TapeAndReel; PartId: 94; Part Status: Active; Price: 0.18; Series: ABLS; Size / Dimension: 0.449" L x 0.185" W (11.40mm x 4.70mm); Supplier 1: DigiKey; Supplier Part Number 1: 535-10212-1-ND; Type: MHz Crystal; Value: 8MHz
footprint ABRACON ABLS
pins: 1, 2

## ABLS-8.000MHZ-B4H-T
designator Y?, comment 8MHz
CRYSTAL 8.0000MHZ 18PF SMD; Part Number: ABLS-8.000MHZ-B4H-T; Manufacturer: Abracon LLC; ESR (Equivalent Series Resistance): 80 Ohms; Frequency Stability: ±35ppm; Frequency Tolerance: ±30ppm; Operating Mode: Fundamental; ComponentLink1Description: Datasheet; ComponentLink1URL: https://abracon.com/Resonators/abls.pdf; ComponentLink2Description: DigiKey Link; ComponentLink2URL: http://digikey.com/product-detail/en/abracon-llc/ABLS-8.000MHZ-B4H-T/535-15002-1-ND/9998079; Frequency: 8MHz; Height - Seated (Max): 0.165" (4.20mm); LastUpdated: 9/2/2020 1:21:45 AM; Lifecycle Status: Active; Load Capacitance: 18pF; Minimum Order: 0; Mounting Type: Surface Mount; Operating Temperature: -20°C ~ 70°C; Package / Case: HC-49/US; Packaging: TapeAndReel; PartId: 115; Part Status: Active; Price: 0.18; Series: ABLS; Size / Dimension: 0.449" L x 0.185" W (11.40mm x 4.70mm); Supplier 1: DigiKey; Supplier Part Number 1: 535-15002-1-ND; Type: MHz Crystal; Value: 8MHz
footprint ABRACON ABLS
pins: 1, 2

## ABLS-8.000MHZ-B-4-Y-T
designator Y?, comment 8MHz
CRYSTAL 8.0000MHZ 18PF SMD; Part Number: ABLS-8.000MHZ-B-4-Y-T; Manufacturer: Abracon LLC; ESR (Equivalent Series Resistance): 80 Ohms; Frequency Stability: ±30ppm; Operating Mode: Fundamental; ComponentLink1Description: Datasheet; ComponentLink1URL: https://abracon.com/Resonators/abls.pdf; ComponentLink2Description: DigiKey Link; ComponentLink2URL: http://digikey.com/product-detail/en/abracon-llc/ABLS-8.000MHZ-B-4-Y-T/535-14946-1-ND/9998023; Frequency: 8MHz; Frequency Tolerance: ±30ppm; Height - Seated (Max): 0.165" (4.20mm); LastUpdated: 9/2/2020 1:21:46 AM; Lifecycle Status: Active; Load Capacitance: 18pF; Minimum Order: 1; Mounting Type: Surface Mount; Operating Temperature: -20°C ~ 70°C; Package / Case: HC-49/US; Packaging: TapeAndReel; PartId: 61; Part Status: Active; Price: 0.11; Series: ABLS; Size / Dimension: 0.449" L x 0.185" W (11.40mm x 4.70mm); Supplier 1: DigiKey; Supplier Part Number 1: 535-14946-1-ND; Type: MHz Crystal; Value: 8MHz
footprint ABRACON ABLS
pins: 1, 2

## ABLS-8.000MHZ-D-3-Y-T
designator Y?, comment 8MHz
CRYSTAL 8.0000MHZ 18PF SMD; Part Number: ABLS-8.000MHZ-D-3-Y-T; Manufacturer: Abracon LLC; ESR (Equivalent Series Resistance): 80 Ohms; Frequency Stability: ±30ppm; Frequency Tolerance: ±25ppm; Operating Mode: Fundamental; ComponentLink1Description: Datasheet; ComponentLink1URL: https://abracon.com/Resonators/abls.pdf; ComponentLink2Description: DigiKey Link; ComponentLink2URL: http://digikey.com/product-detail/en/abracon-llc/ABLS-8.000MHZ-D-3-Y-T/535-14947-1-ND/9998024; Frequency: 8MHz; Height - Seated (Max): 0.165" (4.20mm); LastUpdated: 9/2/2020 1:21:46 AM; Lifecycle Status: Active; Load Capacitance: 18pF; Minimum Order: 1; Mounting Type: Surface Mount; Operating Temperature: -40°C ~ 85°C; Package / Case: HC-49/US; Packaging: TapeAndReel; PartId: 78; Part Status: Active; Price: 0.13; Series: ABLS; Size / Dimension: 0.449" L x 0.185" W (11.40mm x 4.70mm); Supplier 1: DigiKey; Supplier Part Number 1: 535-14947-1-ND; Type: MHz Crystal; Value: 8MHz
footprint ABRACON ABLS
pins: 1, 2

## ABLS-8.000MHZ-D-4-H-T
designator Y?, comment 8MHz
CRYSTAL 8.0000MHZ 18PF SMD; Part Number: ABLS-8.000MHZ-D-4-H-T; Manufacturer: Abracon LLC; ESR (Equivalent Series Resistance): 80 Ohms; Frequency Stability: ±35ppm; Frequency Tolerance: ±30ppm; Operating Mode: Fundamental; ComponentLink1Description: Datasheet; ComponentLink1URL: https://abracon.com/Resonators/abls.pdf; ComponentLink2Description: DigiKey Link; ComponentLink2URL: http://digikey.com/product-detail/en/abracon-llc/ABLS-8.000MHZ-D-4-H-T/535-14948-1-ND/9998025; Frequency: 8MHz; Height - Seated (Max): 0.165" (4.20mm); LastUpdated: 9/2/2020 1:21:45 AM; Lifecycle Status: Active; Load Capacitance: 18pF; Minimum Order: 1; Mounting Type: Surface Mount; Operating Temperature: -40°C ~ 85°C; Package / Case: HC-49/US; Packaging: TapeAndReel; PartId: 155; Part Status: Active; Price: 0.18; Series: ABLS; Size / Dimension: 0.449" L x 0.185" W (11.40mm x 4.70mm); Supplier 1: DigiKey; Supplier Part Number 1: 535-14948-1-ND; Type: MHz Crystal; Value: 8MHz
footprint ABRACON ABLS
pins: 1, 2

## ABLS-8.000MHZ-D-T
designator Y?, comment 8MHz
CRYSTAL 8.0000MHZ 18PF SMD; Part Number: ABLS-8.000MHZ-D-T; Manufacturer: Abracon LLC; ESR (Equivalent Series Resistance): 80 Ohms; Frequency Stability: ±50ppm; Operating Mode: Fundamental; ComponentLink1Description: Datasheet; ComponentLink1URL: https://abracon.com/Resonators/abls.pdf; ComponentLink2Description: DigiKey Link; ComponentLink2URL: http://digikey.com/product-detail/en/abracon-llc/ABLS-8.000MHZ-D-T/535-13445-2-ND/5980041; Frequency: 8MHz; Frequency Tolerance: ±50ppm; Height - Seated (Max): 0.165" (4.20mm); LastUpdated: 9/2/2020 1:21:45 AM; Lifecycle Status: Active; Load Capacitance: 18pF; Minimum Order: 0; Mounting Type: Surface Mount; Operating Temperature: -40°C ~ 85°C; Package / Case: HC-49/US; Packaging: TapeAndReel; PartId: 98; Part Status: Active; Price: 0.18; Series: ABLS; Size / Dimension: 0.449" L x 0.185" W (11.40mm x 4.70mm); Supplier 1: DigiKey; Supplier Part Number 1: 535-13445-2-ND; Type: MHz Crystal; Value: 8MHz
footprint ABRACON ABLS
pins: 1, 2

## ABLS-8.000MHZ-K4T
designator Y?, comment 8MHz
CRYSTAL 8.0000MHZ 18PF SMD; Part Number: ABLS-8.000MHZ-K4T; Manufacturer: Abracon LLC; ESR (Equivalent Series Resistance): 80 Ohms; Frequency Stability: ±50ppm; Frequency Tolerance: ±30ppm; Operating Mode: Fundamental; ComponentLink1Description: Datasheet; ComponentLink1URL: https://abracon.com/Resonators/abls.pdf; ComponentLink2Description: DigiKey Link; ComponentLink2URL: http://digikey.com/product-detail/en/abracon-llc/ABLS-8.000MHZ-K4T/535-9937-1-ND/2001560; Frequency: 8MHz; Height - Seated (Max): 0.165" (4.20mm); LastUpdated: 9/2/2020 1:21:44 AM; Lifecycle Status: Active; Load Capacitance: 18pF; Minimum Order: 1; Mounting Type: Surface Mount; Operating Temperature: -40°C ~ 125°C; Package / Case: HC-49/US; Packaging: TapeAndReel; PartId: 230; Part Status: Active; Price: 0.27; Series: ABLS; Size / Dimension: 0.449" L x 0.185" W (11.40mm x 4.70mm); Supplier 1: DigiKey; Supplier Part Number 1: 535-9937-1-ND; Type: MHz Crystal; Value: 8MHz
footprint ABRACON ABLS
pins: 1, 2

## ABLS-8.000MHZ-L4Q-T
designator Y?, comment 8MHz
CRYSTAL 8.0000MHZ 18PF SMD; Part Number: ABLS-8.000MHZ-L4Q-T; Manufacturer: Abracon LLC; ESR (Equivalent Series Resistance): 80 Ohms; Frequency Stability: ±100ppm; Frequency Tolerance: ±30ppm; Operating Mode: Fundamental; ComponentLink1Description: Datasheet; ComponentLink1URL: https://abracon.com/Resonators/abls.pdf; ComponentLink2Description: DigiKey Link; ComponentLink2URL: http://digikey.com/product-detail/en/abracon-llc/ABLS-8.000MHZ-L4Q-T/535-9901-1-ND/2001524; Frequency: 8MHz; Height - Seated (Max): 0.165" (4.20mm); LastUpdated: 9/2/2020 1:21:44 AM; Lifecycle Status: Active; Load Capacitance: 18pF; Minimum Order: 1; Mounting Type: Surface Mount; Operating Temperature: -55°C ~ 125°C; Package / Case: HC-49/US; Packaging: TapeAndReel; PartId: 253; Part Status: Active; Price: 0.42; Series: ABLS; Size / Dimension: 0.449" L x 0.185" W (11.40mm x 4.70mm); Supplier 1: DigiKey; Supplier Part Number 1: 535-9901-1-ND; Type: MHz Crystal; Value: 8MHz
footprint ABRACON ABLS
pins: 1, 2

## ABLS-8.000MHZ-SD7Y-T
designator Y?, comment 8MHz
CRYSTAL 8.000MHZ 18PF SMD; Part Number: ABLS-8.000MHZ-SD7Y-T; Manufacturer: Abracon LLC; ESR (Equivalent Series Resistance): 80 Ohms; Frequency Stability: ±30ppm; Frequency Tolerance: ±15ppm; Operating Mode: Fundamental; ComponentLink1Description: Datasheet; ComponentLink1URL: https://abracon.com/Resonators/abls.pdf; ComponentLink2Description: DigiKey Link; ComponentLink2URL: http://digikey.com/product-detail/en/abracon-llc/ABLS-8.000MHZ-SD7Y-T/535-14365-1-ND/8582126; Frequency: 8MHz; Height - Seated (Max): 0.165" (4.20mm); LastUpdated: 9/2/2020 1:21:46 AM; Lifecycle Status: Active; Load Capacitance: 18pF; Minimum Order: 1; Mounting Type: Surface Mount; Operating Temperature: -40°C ~ 85°C; Package / Case: HC-49/US; Packaging: TapeAndReel; PartId: 25; Part Status: Active; Price: 0.24; Series: ABLS; Size / Dimension: 0.449" L x 0.185" W (11.40mm x 4.70mm); Supplier 1: DigiKey; Supplier Part Number 1: 535-14365-1-ND; Type: MHz Crystal; Value: 8MHz
footprint ABRACON ABLS
pins: 1, 2

## ABLS-8.000MHZ-T
designator Y?, comment 8MHz
CRYSTAL 8.0000MHZ 18PF SMD; Part Number: ABLS-8.000MHZ-T; Manufacturer: Abracon LLC; ESR (Equivalent Series Resistance): 80 Ohms; Frequency Stability: ±50ppm; Operating Mode: Fundamental; ComponentLink1Description: Datasheet; ComponentLink1URL: https://abracon.com/Resonators/abls.pdf; ComponentLink2Description: DigiKey Link; ComponentLink2URL: http://digikey.com/product-detail/en/abracon-llc/ABLS-8.000MHZ-T/535-13446-2-ND/5980042; Frequency: 8MHz; Frequency Tolerance: ±50ppm; Height - Seated (Max): 0.165" (4.20mm); LastUpdated: 9/2/2020 1:21:45 AM; Lifecycle Status: Active; Load Capacitance: 18pF; Minimum Order: 0; Mounting Type: Surface Mount; Package / Case: HC-49/US; Packaging: TapeAndReel; PartId: 156; Part Status: Active; Price: 0.18; Series: ABLS; Size / Dimension: 0.449" L x 0.185" W (11.40mm x 4.70mm); Supplier 1: DigiKey; Supplier Part Number 1: 535-13446-2-ND; Type: MHz Crystal; Value: 8MHz
footprint ABRACON ABLS
pins: 1, 2

## ABLS-8.192MHZ-B2-T
designator Y?, comment 8.192MHz
CRYSTAL 8.1920MHZ 18PF SMD; Part Number: ABLS-8.192MHZ-B2-T; Manufacturer: Abracon LLC; ESR (Equivalent Series Resistance): 80 Ohms; Frequency Stability: ±50ppm; Frequency Tolerance: ±20ppm; Operating Mode: Fundamental; ComponentLink1Description: Datasheet; ComponentLink1URL: https://abracon.com/Resonators/abls.pdf; ComponentLink2Description: DigiKey Link; ComponentLink2URL: http://digikey.com/product-detail/en/abracon-llc/ABLS-8.192MHZ-B2-T/535-9090-1-ND/675607; Frequency: 8.192MHz; Height - Seated (Max): 0.165" (4.20mm); LastUpdated: 9/2/2020 1:21:45 AM; Lifecycle Status: Active; Load Capacitance: 18pF; Minimum Order: 1; Mounting Type: Surface Mount; Operating Temperature: -20°C ~ 70°C; Package / Case: HC-49/US; Packaging: TapeAndReel; PartId: 116; Part Status: Active; Price: 0.24; Series: ABLS; Size / Dimension: 0.449" L x 0.185" W (11.40mm x 4.70mm); Supplier 1: DigiKey; Supplier Part Number 1: 535-9090-1-ND; Type: MHz Crystal; Value: 8.192MHz
footprint ABRACON ABLS
pins: 1, 2

## ABLS-8.192MHZ-K4T
designator Y?, comment 8.192MHz
CRYSTAL 8.1920MHZ 18PF SMD; Part Number: ABLS-8.192MHZ-K4T; Manufacturer: Abracon LLC; ESR (Equivalent Series Resistance): 80 Ohms; Frequency Stability: ±50ppm; Frequency Tolerance: ±30ppm; Operating Mode: Fundamental; ComponentLink1Description: Datasheet; ComponentLink1URL: https://abracon.com/Resonators/abls.pdf; ComponentLink2Description: DigiKey Link; ComponentLink2URL: http://digikey.com/product-detail/en/abracon-llc/ABLS-8.192MHZ-K4T/535-9938-1-ND/2001561; Frequency: 8.192MHz; Height - Seated (Max): 0.165" (4.20mm); LastUpdated: 9/2/2020 1:21:44 AM; Lifecycle Status: Active; Load Capacitance: 18pF; Minimum Order: 1; Mounting Type: Surface Mount; Operating Temperature: -40°C ~ 125°C; Package / Case: HC-49/US; Packaging: TapeAndReel; PartId: 200; Part Status: Active; Price: 0.41; Series: ABLS; Size / Dimension: 0.449" L x 0.185" W (11.40mm x 4.70mm); Supplier 1: DigiKey; Supplier Part Number 1: 535-9938-1-ND; Type: MHz Crystal; Value: 8.192MHz
footprint ABRACON ABLS
pins: 1, 2

## ABLS-8.192MHZ-L4Q-T
designator Y?, comment 8.192MHz
CRYSTAL 8.1920MHZ 18PF SMD; Part Number: ABLS-8.192MHZ-L4Q-T; Manufacturer: Abracon LLC; ESR (Equivalent Series Resistance): 80 Ohms; Frequency Stability: ±100ppm; Frequency Tolerance: ±30ppm; Operating Mode: Fundamental; ComponentLink1Description: Datasheet; ComponentLink1URL: https://abracon.com/Resonators/abls.pdf; ComponentLink2Description: DigiKey Link; ComponentLink2URL: http://digikey.com/product-detail/en/abracon-llc/ABLS-8.192MHZ-L4Q-T/535-9902-1-ND/2001525; Frequency: 8.192MHz; Height - Seated (Max): 0.165" (4.20mm); LastUpdated: 9/2/2020 1:21:44 AM; Lifecycle Status: Active; Load Capacitance: 18pF; Minimum Order: 1; Mounting Type: Surface Mount; Operating Temperature: -55°C ~ 125°C; Package / Case: HC-49/US; Packaging: TapeAndReel; PartId: 222; Part Status: Active; Price: 0.42; Series: ABLS; Size / Dimension: 0.449" L x 0.185" W (11.40mm x 4.70mm); Supplier 1: DigiKey; Supplier Part Number 1: 535-9902-1-ND; Type: MHz Crystal; Value: 8.192MHz
footprint ABRACON ABLS
pins: 1, 2

## ABLS-9.216MHZ-20-B-4-Y-T
designator Y?, comment 9.216MHz
CRYSTAL 9.2160MHZ 20PF SMD; Part Number: ABLS-9.216MHZ-20-B-4-Y-T; Manufacturer: Abracon LLC; ESR (Equivalent Series Resistance): 60 Ohms; Frequency Stability: ±30ppm; Operating Mode: Fundamental; ComponentLink1Description: Datasheet; ComponentLink1URL: https://abracon.com/Resonators/abls.pdf; ComponentLink2Description: DigiKey Link; ComponentLink2URL: http://digikey.com/product-detail/en/abracon-llc/ABLS-9.216MHZ-20-B-4-Y-T/535-14949-1-ND/9998026; Frequency: 9.216MHz; Frequency Tolerance: ±30ppm; Height - Seated (Max): 0.165" (4.20mm); LastUpdated: 9/2/2020 1:21:46 AM; Lifecycle Status: Active; Load Capacitance: 20pF; Minimum Order: 1; Mounting Type: Surface Mount; Operating Temperature: -20°C ~ 70°C; Package / Case: HC-49/US; Packaging: TapeAndReel; PartId: 55; Part Status: Active; Price: 0.21; Series: ABLS; Size / Dimension: 0.449" L x 0.185" W (11.40mm x 4.70mm); Supplier 1: DigiKey; Supplier Part Number 1: 535-14949-1-ND; Type: MHz Crystal; Value: 9.216MHz
footprint ABRACON ABLS
pins: 1, 2

## ABLS-9.216MHZ-B4-T
designator Y?, comment 9.216MHz
CRYSTAL 9.2160MHZ 18PF SMD; Part Number: ABLS-9.216MHZ-B4-T; Manufacturer: Abracon LLC; ESR (Equivalent Series Resistance): 60 Ohms; Frequency Stability: ±50ppm; Frequency Tolerance: ±30ppm; Operating Mode: Fundamental; ComponentLink1Description: Datasheet; ComponentLink1URL: https://abracon.com/Resonators/abls.pdf; ComponentLink2Description: DigiKey Link; ComponentLink2URL: http://digikey.com/product-detail/en/abracon-llc/ABLS-9.216MHZ-B4-T/535-10213-1-ND/2184248; Frequency: 9.216MHz; Height - Seated (Max): 0.165" (4.20mm); LastUpdated: 9/2/2020 1:21:45 AM; Lifecycle Status: Active; Load Capacitance: 18pF; Minimum Order: 1; Mounting Type: Surface Mount; Operating Temperature: -20°C ~ 70°C; Package / Case: HC-49/US; Packaging: TapeAndReel; PartId: 105; Part Status: Active; Price: 0.18; Series: ABLS; Size / Dimension: 0.449" L x 0.185" W (11.40mm x 4.70mm); Supplier 1: DigiKey; Supplier Part Number 1: 535-10213-1-ND; Type: MHz Crystal; Value: 9.216MHz
footprint ABRACON ABLS
pins: 1, 2